# Altium footprint library PcbLib1.PcbLib: 59 footprints (part 3 of 4)
Each footprint in its own frame and in the unit in brackets; x right, y up, seen from the top. Pads: shape width x height; smd on the part's side, far side on the other; paste and mask are expansions set on the pad; w line width, h text height; cw(c..) or ccw(c..) is an arc to the next point about the centre after c.
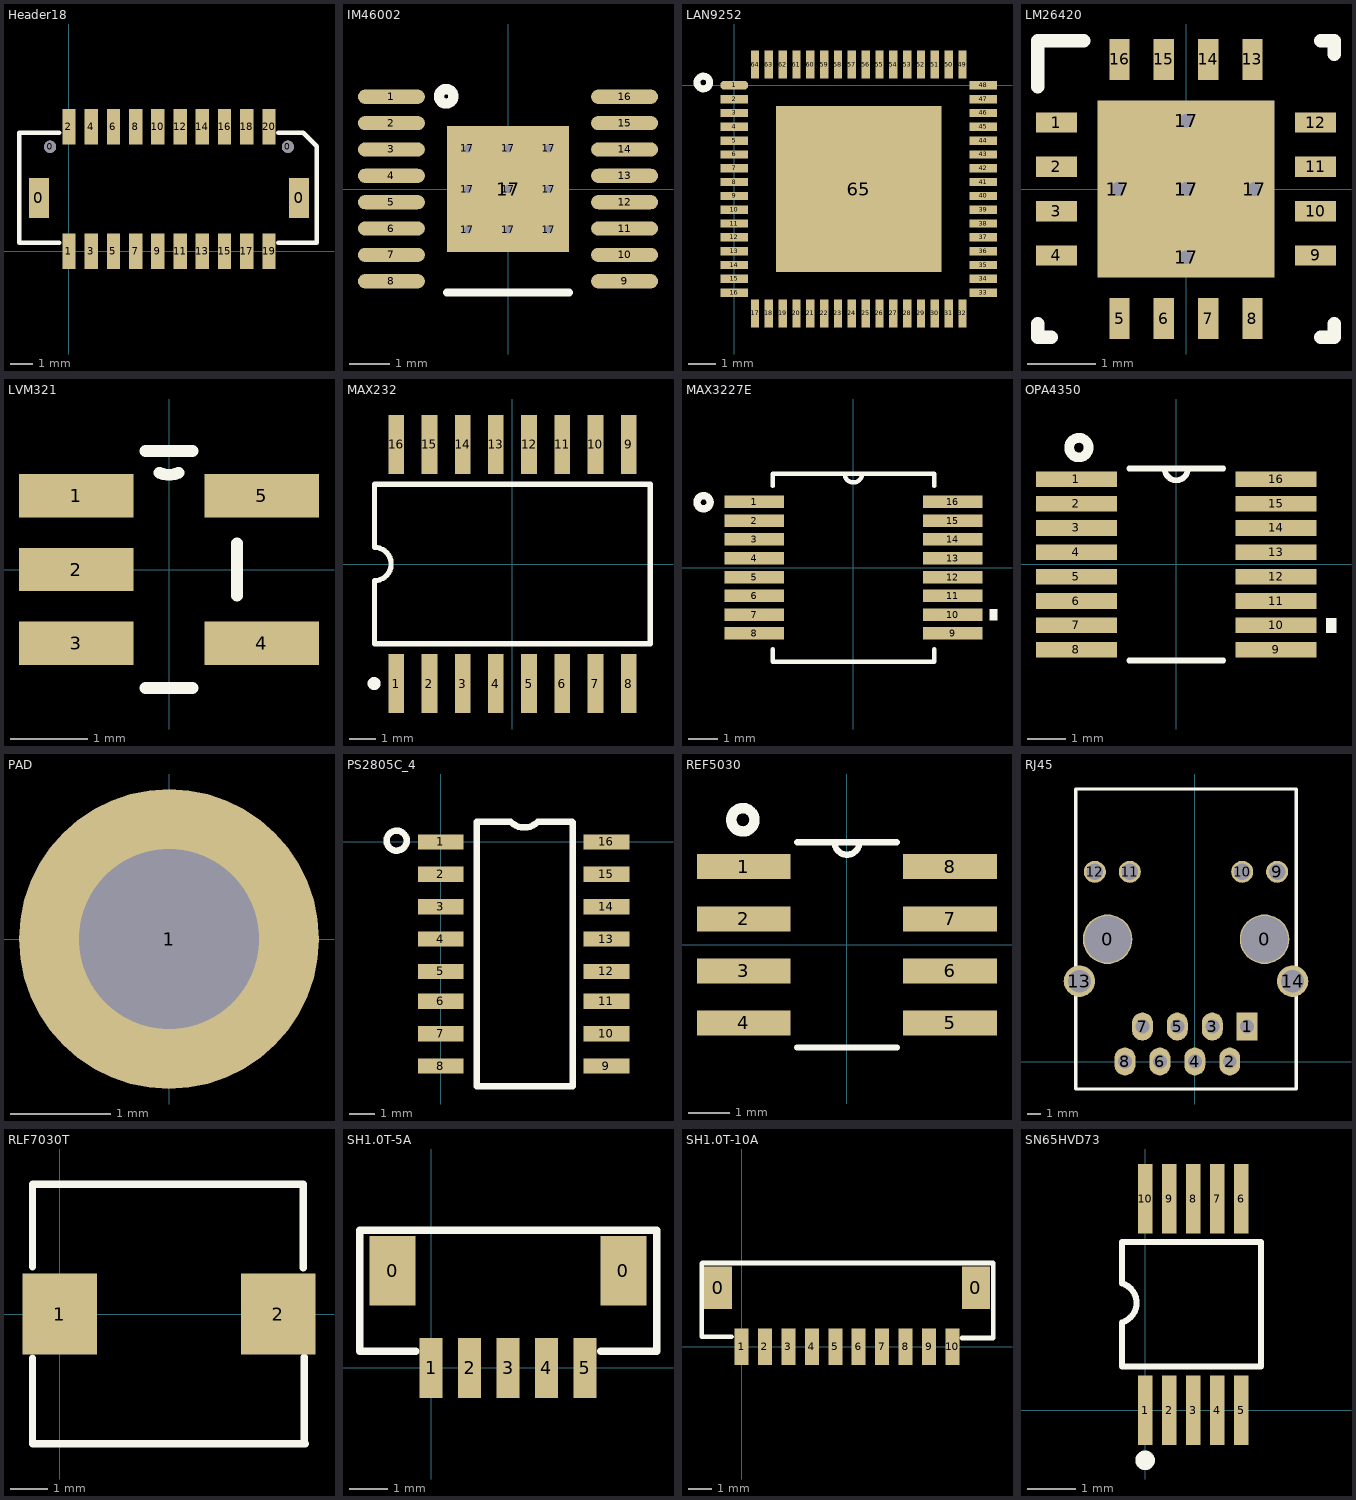
[diagram p2: the footprints below, top view; thin cyan lines are the x and y axes]

## Header18 [mm]
pads (24):
  rect 0.9x1.8 smd: 0(-1.35,2.4) 0(10.35,2.4)
  round 0.55 hole 0.55: 0(-0.85,4.7) 0(9.85,4.7)
  rect 0.6x1.6 smd: 1(0,0) 2(0,5.6) 3(1,0) 4(1,5.6) 5(2,0) 6(2,5.6) 7(3,0) 8(3,5.6) 9(4,0) 10(4,5.6) 11(5,0) 12(5,5.6) 13(6,0) 14(6,5.6) 15(7,0) 16(7,5.6) 17(8,0) 18(8,5.6) 19(9,0) 20(9,5.6)
Top Overlay:
  lines w0.2: -0.432,0.381 -2.235,0.381 -2.235,5.334 -0.432,5.334 ; 9.423,0.381 11.151,0.381 11.151,4.724 10.541,5.334 9.576,5.334 9.423,5.334

## IM46002 [mm]
pads (26):
  oval 1.65x0.35 smd paste-0.102 mask+0.051: 1(-2.875,2.275) 2(-2.875,1.625) 3(-2.875,0.975) 4(-2.875,0.325) 5(-2.875,-0.325) 6(-2.875,-0.975) 7(-2.875,-1.625) 8(-2.875,-2.275) 9(2.875,-2.275) 10(2.875,-1.625) 11(2.875,-0.975) 12(2.875,-0.325) 13(2.875,0.325) 14(2.875,0.975) 15(2.875,1.625) 16(2.875,2.275)
  round 0.4 / inner round 1.524 / far side round 0.4 hole 0.2 mask+0.051: 17(-1,-1) 17(-1,0) 17(-1,1) 17(0,-1) 17(0,0) 17(0,1) 17(1,-1) 17(1,0) 17(1,1)
  rect 3x3.1 smd paste-0.102 mask+0.051: 17(0,0)
Top Overlay:
  circle w0.254: c-1.524,2.286 r0.18
  lines w0.2: -1.5,-2.55 1.5,-2.55

## LAN9252 [mm]
pads (65):
  oct 1x0.3 smd: 1(0,0)
  rect 1x0.3 smd: 2(0,-0.5) 3(0,-1) 4(0,-1.5) 5(0,-2) 6(0,-2.5) 7(0,-3) 8(0,-3.5) 9(0,-4) 10(0,-4.5) 11(0,-5) 12(0,-5.5) 13(0,-6) 14(0,-6.5) 15(0,-7) 16(0,-7.5) 33(9,-7.5) 34(9,-7) 35(9,-6.5) 36(9,-6) 37(9,-5.5) 38(9,-5) 39(9,-4.5) 40(9,-4) 41(9,-3.5) 42(9,-3) 43(9,-2.5) 44(9,-2) 45(9,-1.5) 46(9,-1) 47(9,-0.5) 48(9,0)
  rect 0.3x1 smd: 17(0.75,-8.25) 18(1.25,-8.25) 19(1.75,-8.25) 20(2.25,-8.25) 21(2.75,-8.25) 22(3.25,-8.25) 23(3.75,-8.25) 24(4.25,-8.25) 25(4.75,-8.25) 26(5.25,-8.25) 27(5.75,-8.25) 28(6.25,-8.25) 29(6.75,-8.25) 30(7.25,-8.25) 31(7.75,-8.25) 32(8.25,-8.25) 49(8.25,0.75) 50(7.75,0.75) 51(7.25,0.75) 52(6.75,0.75) 53(6.25,0.75) 54(5.75,0.75) 55(5.25,0.75) 56(4.75,0.75) 57(4.25,0.75) 58(3.75,0.75) 59(3.25,0.75) 60(2.75,0.75) 61(2.25,0.75) 62(1.75,0.75) 63(1.25,0.75) 64(0.75,0.75)
  rect 6x6 smd: 65(4.5,-3.75)
Top Overlay:
  circle w0.254: c-1.118,0.102 r0.23

## LM26420 [mm]
pads (22):
  rect 0.6x0.3 smd paste-0.102 mask+0.051: 1(-1.9,0.975) 2(-1.9,0.325) 3(-1.9,-0.325) 4(-1.9,-0.975) 9(1.9,-0.975) 10(1.9,-0.325) 11(1.9,0.325) 12(1.9,0.975)
  rect 0.3x0.6 smd paste-0.102 mask+0.051: 5(-0.975,-1.9) 6(-0.325,-1.9) 7(0.325,-1.9) 8(0.975,-1.9) 13(0.975,1.9) 14(0.325,1.9) 15(-0.325,1.9) 16(-0.975,1.9)
  round 0.5 / inner round 1.524 / far side round 0.5 hole 0.203 mask+0.051: 17(-1,0) 17(0,-1) 17(0,0) 17(0,1) 17(1,0)
  rect 2.6x2.6 smd paste-1.287 mask+0.051: 17(0,0)
Top Overlay:
  lines w0.2: -2.175,-1.975 -2.175,-2.175 -1.975,-2.175 ; -2.175,1.5 -2.175,2.175 -1.5,2.175 ; 1.975,-2.175 2.175,-2.175 2.175,-1.975 ; 1.975,2.175 2.175,2.175 2.175,1.975
Top Paste:
  region: -1.248,-0.1 -1.248,-1.248 -0.1,-1.248 -0.1,-0.1
  region: -1.248,1.248 -1.248,0.1 -0.1,0.1 -0.1,1.248
  region: 0.1,1.248 0.1,0.1 1.248,0.1 1.248,1.248
  region: 0.1,-0.1 0.1,-1.248 1.248,-1.248 1.248,-0.1

## LVM321 [mil]
pads (5):
  rect 58x22 smd: 1(-47,37.4) 2(-47,0) 3(-47,-37.4) 4(47,-37.4) 5(47,37.4)
Top Overlay:
  lines w6: -11.91,-60 11.91,-60 ; -11.91,60 11.91,60 ; -4.92,49.05 ccw(c0,60) 4.92,49.05 ; 34.5,-13.3 34.5,13.3

## MAX232 [mm] "Wide body."
pads (16):
  rect 0.6x2.25 smd: 1(-4.445,-4.575) 2(-3.175,-4.575) 3(-1.905,-4.575) 4(-0.635,-4.575) 5(0.635,-4.575) 6(1.905,-4.575) 7(3.175,-4.575) 8(4.445,-4.575) 9(4.445,4.575) 10(3.175,4.575) 11(1.905,4.575) 12(0.635,4.575) 13(-0.635,4.575) 14(-1.905,4.575) 15(-3.175,4.575) 16(-4.445,4.575)
Top Overlay:
  circle w0.25: c-5.295,-4.575 r0.125
  lines w0.2: -5.275,-3.05 -5.275,-0.635 ccw(c-5.275,0) -5.275,0.635 -5.275,3.05 5.275,3.05 5.275,-3.05 -5.275,-3.05

## MAX3227E [mil]
pads (16):
  rect 81x17 smd: 1(-135,89.57) 2(-135,63.98) 3(-135,38.39) 4(-135,12.8) 5(-135,-12.8) 6(-135,-38.39) 7(-135,-63.98) 8(-135,-89.57) 9(135,-89.57) 10(135,-63.98) 11(135,-38.39) 12(135,-12.8) 13(135,12.8) 14(135,38.39) 15(135,63.98) 16(135,89.57)
Top Overlay:
  circle w10: c-204,89 r8.94
  region: 185.5,-56.48 195.5,-56.48 195.5,-71.48 185.5,-71.48
  lines w6: -110,-111.17 -110,-128 110,-128 110,-111.17 ; -110,111.17 -110,128 110,128 110,111.17 ; -12,128 ccw(c0,128) 12,128

## OPA4350 [mil]
pads (16):
  rect 83x16 smd: 1(-102.5,87.5) 2(-102.5,62.5) 3(-102.5,37.5) 4(-102.5,12.5) 5(-102.5,-12.5) 6(-102.5,-37.5) 7(-102.5,-62.5) 8(-102.5,-87.5) 9(102.5,-87.5) 10(102.5,-62.5) 11(102.5,-37.5) 12(102.5,-12.5) 13(102.5,12.5) 14(102.5,37.5) 15(102.5,62.5) 16(102.5,87.5)
Top Overlay:
  circle w10: c-100,120 r10
  region: 154,-55 164,-55 164,-70 154,-70
  lines w6: -48.25,-98.5 48.25,-98.5 ; -48.25,98.5 48.25,98.5 ; -12,98.5 ccw(c0,98.5) 12,98.5

## PAD [mm]
pads (1):
  round 3 hole 1.8: 1(0,0)

## PS2805C_4 [mm]
pads (16):
  rect 1.8x0.6 smd: 1(0,0) 2(0,-1.27) 3(0,-2.54) 4(0,-3.81) 5(0,-5.08) 6(0,-6.25) 7(0,-7.52) 8(0,-8.79) 9(6.5,-8.79) 10(6.5,-7.52) 11(6.5,-6.25) 12(6.5,-5.08) 13(6.5,-3.81) 14(6.5,-2.54) 15(6.5,-1.27) 16(6.5,0)
Top Overlay:
  circle w0.254: c-1.727,0.051 r0.394
  lines w0.254: 1.422,-9.576 1.422,0.787 2.743,0.787 ccw(c3.277,1.321) 3.81,0.787 5.156,0.787 5.182,0.762 5.182,-9.576 1.422,-9.576

## REF5030 [mil]
pads (8):
  rect 90x24 smd: 1(-99,75) 2(-99,25) 3(-99,-25) 4(-99,-75) 5(99,-75) 6(99,-25) 7(99,25) 8(99,75)
Top Overlay:
  circle w10: c-100,120 r11.18
  lines w6: -47.73,-98.5 47.73,-98.5 ; -47.73,98.5 47.73,98.5 ; -12,98.5 ccw(c0,98.5) 12,98.5

## RJ45 [mm]
height 0.762
pads (16):
  round 3.6 hole 3.4: 0(-6.335,8.89) 0(5.075,8.89)
  rect 1.524x2.032 hole 1.016: 1(3.81,2.54)
  oval 1.524x2.032 hole 1.016: 2(2.54,0) 3(1.27,2.54) 4(0,0) 5(-1.27,2.54) 6(-2.54,0) 7(-3.81,2.54) 8(-5.08,0)
  round 1.6 hole 1.2: 9(5.985,13.79) 10(3.445,13.79) 11(-4.725,13.79) 12(-7.265,13.79)
  round 2.286 hole 1.651: 13(-8.385,5.84) 14(7.105,5.84)
Top Overlay:
  lines w0.254: -8.64,5.842 -8.64,-1.996 7.36,-1.996 ; -8.64,7.106 -8.64,16.002 -8.64,19.81 7.36,19.81 7.36,16.002 7.36,0.037 7.36,-0.724 7.36,-1.966 7.33,-1.996 ; -8.636,5.842 -8.636,7.106

## RLF7030T [mm]
pads (2):
  rect 2x2.2 smd: 1(0,0) 2(5.9,0)
Top Overlay:
  lines w0.2: -0.737,-1.194 -0.737,-3.5 6.624,-3.5 6.604,-3.48 6.604,-1.168 ; -0.737,1.27 -0.737,3.5 6.579,3.5 6.579,3.454 6.579,1.245

## SH1.0T-5A [mm]
pads (7):
  rect 1.2x1.8 smd: 0(-1,2.525) 0(5,2.525)
  rect 0.6x1.55 smd: 1(0,0) 2(1,0) 3(2,0) 4(3,0) 5(4,0)
Top Overlay:
  lines w0.2: -0.406,0.432 -1.854,0.432 -1.854,2.997 -1.854,3.581 5.867,3.581 5.867,0.432 4.42,0.432

## SH1.0T-10A [mm]
pads (12):
  rect 1.2x1.8 smd: 0(-1,2.525) 0(10,2.525)
  rect 0.6x1.55 smd: 1(0,0) 2(1,0) 3(2,0) 4(3,0) 5(4,0) 6(5,0) 7(6,0) 8(7,0) 9(8,0) 10(9,0)
Top Overlay:
  lines w0.2: -0.432,0.432 -1.702,0.432 -1.702,3.15 -1.702,3.277 -1.702,3.556 -1.676,3.581 5.664,3.581 10.744,3.581 10.744,3.556 10.744,3.277 10.744,0.381 9.398,0.381

## SN65HVD73 [mm]
pads (10):
  rect 0.3x1.45 smd: 1(0,0) 2(0.5,0) 3(1,0) 4(1.5,0) 5(2,0) 6(2,4.4) 7(1.5,4.4) 8(1,4.4) 9(0.5,4.4) 10(0,4.4)
Top Overlay:
  circle w0.254: c0,-1.041 r0.076
  lines w0.127: -0.483,0.914 -0.457,0.914 2.413,0.914 2.413,3.505 -0.483,3.505 -0.483,2.642 cw(c-0.601,2.235) -0.483,1.829 -0.483,0.94